# EAGLE library part FT245BM* (library mita-akiba)
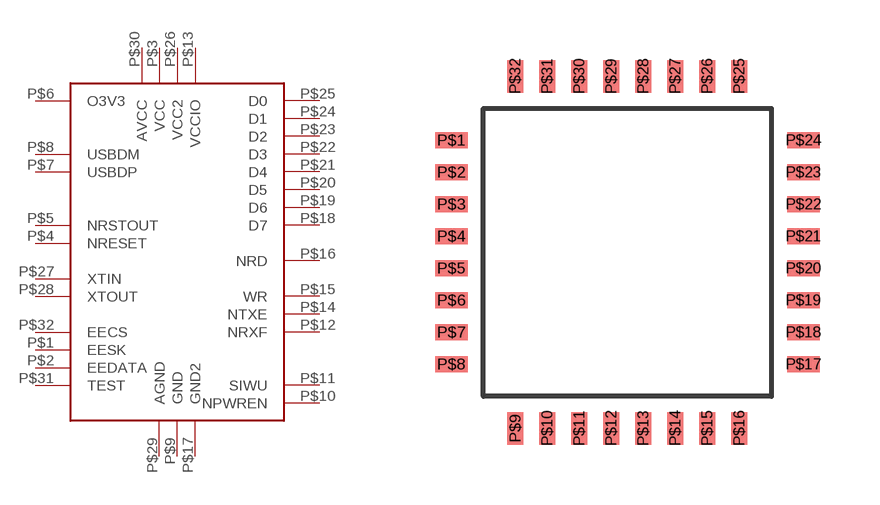
[diagram p3: symbol with the pads of LQFP32; footprint LQFP32]

Designator prefix -

## FT245BMLQFP32  [LQFP32]
P$1  EESK
P$2  EEDATA
P$3  VCC  pwr
P$4  NRESET
P$5  NRSTOUT
P$6  O3V3
P$7  USBDP
P$8  USBDM
P$9  GND  pwr
P$10  NPWREN
P$11  SIWU
P$12  NRXF
P$13  VCCIO  pwr
P$14  NTXE
P$15  WR
P$16  NRD
P$17  GND2  pwr
P$18  D7
P$19  D6
P$20  D5
P$21  D4
P$22  D3
P$23  D2
P$24  D1
P$25  D0
P$26  VCC2  pwr
P$27  XTIN
P$28  XTOUT
P$29  AGND  pwr
P$30  AVCC  pwr
P$31  TEST
P$32  EECS

## Footprint LQFP32 (pad centres in mm)
smd 0.813 x 0.406: P$1 -4.4,2.8; P$2 -4.4,2; P$3 -4.4,1.2; P$4 -4.4,0.4; P$5 -4.4,-0.4; P$6 -4.4,-1.2; P$7 -4.4,-2; P$8 -4.4,-2.8; P$17 4.4,-2.8; P$18 4.4,-2; P$19 4.4,-1.2; P$20 4.4,-0.4; P$21 4.4,0.4; P$22 4.4,1.2; P$23 4.4,2; P$24 4.4,2.8
smd 0.406 x 0.813: P$9 -2.8,-4.4; P$10 -2,-4.4; P$11 -1.2,-4.4; P$12 -0.4,-4.4; P$13 0.4,-4.4; P$14 1.2,-4.4; P$15 2,-4.4; P$16 2.8,-4.4; P$25 2.8,4.4; P$26 2,4.4; P$27 1.2,4.4; P$28 0.4,4.4; P$29 -0.4,4.4; P$30 -1.2,4.4; P$31 -2,4.4; P$32 -2.8,4.4